# Altium schematic symbol library TUSB4020BIPHP.SchLib: 1 symbol
Pins are listed as number, name and electrical type; pins without a type are passive.

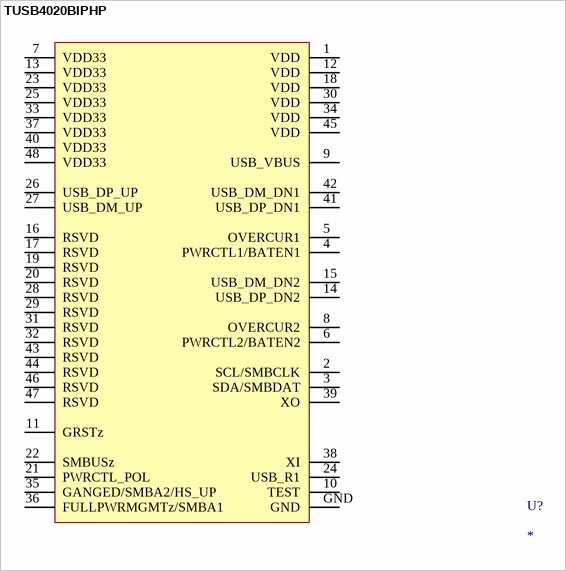
[diagram p0: symbol TUSB4020BIPHP]

## TUSB4020BIPHP
designator U?
pins: 1 VDD, 2 SCL/SMBCLK, 3 SDA/SMBDAT, 4 PWRCTL1/BATEN1, 5 OVERCUR1, 6 PWRCTL2/BATEN2, 7 VDD33, 8 OVERCUR2, 9 USB_VBUS, 10 TEST, 11 GRSTz, 12 VDD, 13 VDD33, 14 USB_DP_DN2, 15 USB_DM_DN2, 16 RSVD, 17 RSVD, 18 VDD, 19 RSVD, 20 RSVD, 21 PWRCTL_POL, 22 SMBUSz, 23 VDD33, 24 USB_R1, 25 VDD33, 26 USB_DP_UP, 27 USB_DM_UP, 28 RSVD, 29 RSVD, 30 VDD, 31 RSVD, 32 RSVD, 33 VDD33, 34 VDD, 35 GANGED/SMBA2/HS_UP, 36 FULLPWRMGMTz/SMBA1, 37 VDD33, 38 XI, 39 XO, 40 VDD33, 41 USB_DP_DN1, 42 USB_DM_DN1, 43 RSVD, 44 RSVD, 45 VDD, 46 RSVD, 47 RSVD, 48 VDD33, GND